# EAGLE library part TJA1055 (library bytewerk-network)
High Speed CAN-Tranceiver - Inhibit - Wake - StandBy - Enable
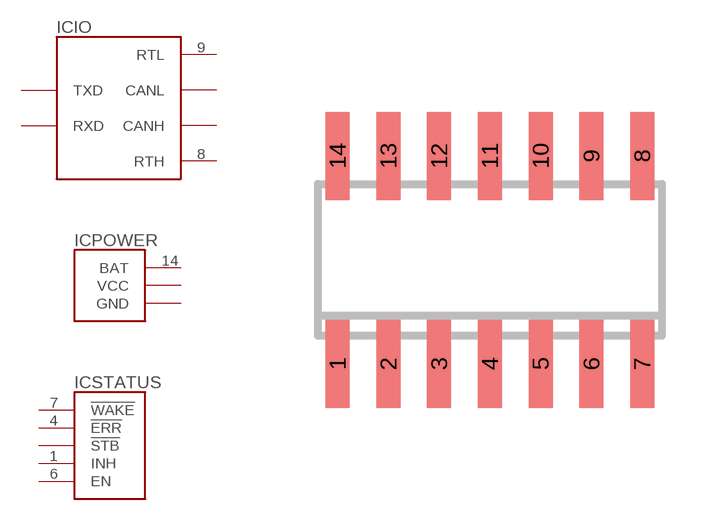
[diagram p3: symbol with the pads of SO14; footprint SO14]

Designator prefix IC; gates IO=TJA1055-CON POWER=TJA1055-POWER STATUS=TJA1055-STATUS

## TJA1055  [SO14]
1  STATUS:INH  out
2  IO:TXD  in
3  IO:RXD  out
4  STATUS:!ERR!  out
5  STATUS:!STB!  in
6  STATUS:EN  in
7  STATUS:!WAKE!  in
8  IO:RTH  pas
9  IO:RTL  pas
10  POWER:VCC  pwr
11  IO:CANH  pas
12  IO:CANL  pas
13  POWER:GND  pwr
14  POWER:BAT  pwr

## Footprint SO14 (pad centres in mm)
SMALL OUTLINE INTEGRATED CIRCUIT body 3.9 mm/JEDEC MS-012AC
smd 0.6 x 2.2: 1 -3.81,-2.6; 2 -2.54,-2.6; 3 -1.27,-2.6; 4 0,-2.6; 5 1.27,-2.6; 6 2.54,-2.6; 7 3.81,-2.6; 8 3.81,2.6; 9 2.54,2.6; 10 1.27,2.6; 11 0,2.6; 12 -1.27,2.6; 13 -2.54,2.6; 14 -3.81,2.6